# Altium footprint library SOIC127P700X210-4N.PcbLib: 1 footprints
Each footprint in its own frame and in the unit in brackets; x right, y up, seen from the top. Pads: shape width x height; smd on the part's side, far side on the other; paste and mask are expansions set on the pad; w line width, h text height; cw(c..) or ccw(c..) is an arc to the next point about the centre after c.
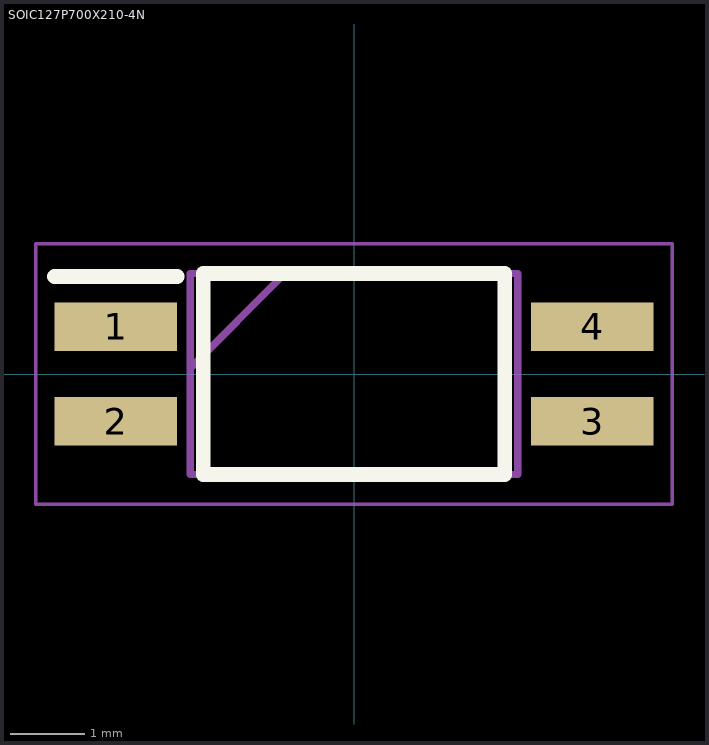
[diagram p0: the footprint, top view; thin cyan lines are the x and y axes]

## SOIC127P700X210-4N [mm]
pads (4):
  rect 1.65x0.65 smd: 1(-3.2,0.635) 2(-3.2,-0.635) 3(3.2,-0.635) 4(3.2,0.635)
Top Overlay:
  lines w0.2: -4.025,1.31 -2.375,1.31 ; -2.025,-1.35 2.025,-1.35 2.025,1.35 -2.025,1.35 -2.025,-1.35
Mechanical 15:
  lines w0.1: -2.2,0.08 -0.93,1.35 ; -2.2,-1.35 2.2,-1.35 2.2,1.35 -2.2,1.35 -2.2,-1.35
Mechanical 20:
  lines w0.05: -4.275,-1.75 4.275,-1.75 4.275,1.75 -4.275,1.75 -4.275,-1.75